# Altium schematic symbol library IS32FL3237-TQLA3.Schlib: 1 symbol
Pins are listed as number, name and electrical type; pins without a type are passive.

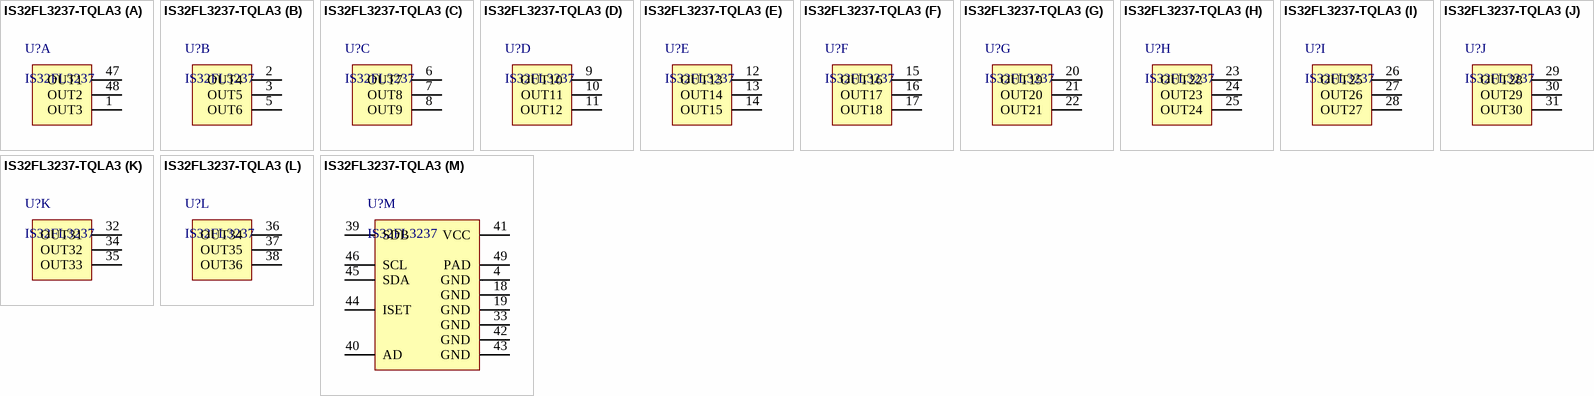
[diagram p0: symbol IS32FL3237-TQLA3]

## IS32FL3237-TQLA3
designator U?, comment IS32FL3237
LED Driver IC 36 Output Linear Constant Current No Dimming 38mA 48-eTQFP (7x7)
part A pins: 1 OUT3, 47 OUT1, 48 OUT2
part B pins: 2 OUT4, 3 OUT5, 5 OUT6
part C pins: 6 OUT7, 7 OUT8, 8 OUT9
part D pins: 9 OUT10, 10 OUT11, 11 OUT12
part E pins: 12 OUT13, 13 OUT14, 14 OUT15
part F pins: 15 OUT16, 16 OUT17, 17 OUT18
part G pins: 20 OUT19, 21 OUT20, 22 OUT21
part H pins: 23 OUT22, 24 OUT23, 25 OUT24
part I pins: 26 OUT25, 27 OUT26, 28 OUT27
part J pins: 29 OUT28, 30 OUT29, 31 OUT30
part K pins: 32 OUT31, 34 OUT32, 35 OUT33
part L pins: 36 OUT34, 37 OUT35, 38 OUT36
part M pins: 4 GND, 18 GND, 19 GND, 33 GND, 39 SDB, 40 AD, 41 VCC, 42 GND, 43 GND, 44 ISET, 45 SDA, 46 SCL, 49 PAD